# EAGLE library part 5VSX50TFF1136 (library xilinx_spartan3_virtex4_and_5)
Xilinx FPGA
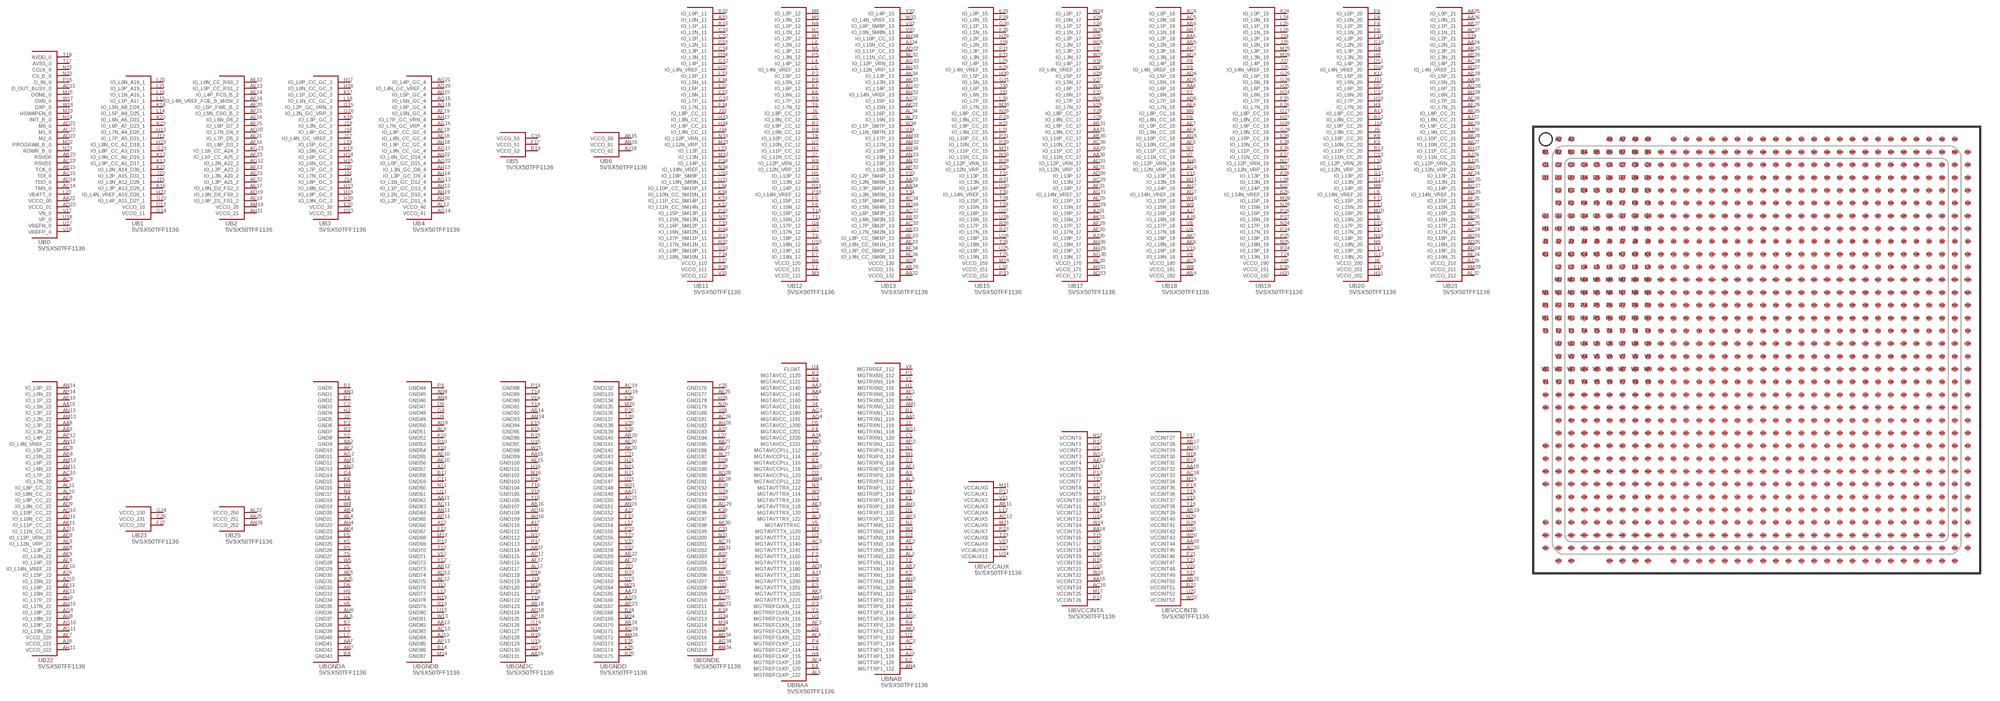
[diagram p113: symbol with the pads of FF1136; footprint FF1136]

Designator prefix U; gates B0=5VSX50TFF1136_0 B1=5VSX50TFF1136_1 B2=5VSX50TFF1136_2 B3=5VSX50TFF1136_3 B4=5VSX50TFF1136_4 B5=5VSX50TFF1136_5 B6=5VSX50TFF1136_6 B11=5VSX50TFF1136_11 B12=5VSX50TFF1136_12 B13=5VSX50TFF1136_13 B15=5VSX50TFF1136_15 B17=5VSX50TFF1136_17 B18=5VSX50TFF1136_18 B19=5VSX50TFF1136_19 B20=5VSX50TFF1136_20 B21=5VSX50TFF1136_21 B22=5VSX50TFF1136_22 B23=5VSX50TFF1136_23 B25=5VSX50TFF1136_25 BGNDA=5VSX50TFF1136_GNDA BGNDB=5VSX50TFF1136_GNDB BGNDC=5VSX50TFF1136_GNDC BGNDD=5VSX50TFF1136_GNDD BGNDE=5VSX50TFF1136_GNDE BNAA=5VSX50TFF1136_NAA BNAB=5VSX50TFF1136_NAB BVCCAUX=5VSX50TFF1136_VCCAUX BVCCINTA=5VSX50TFF1136_VCCINTA BVCCINTB=5VSX50TFF1136_VCCINTB

## 5VSX50TFF1136  [FF1136]
A2  BNAB:MGTRXN0_120
A3  BNAB:MGTRXP0_120
A11  BGNDB:GND57  pas
A12  BGNDB:GND66  pas
A13  B20:IO_L8P_CC_20
A17  BGNDC:GND110  pas
A22  BGNDD:GND152  pas
A27  BGNDE:GND183  pas
A32  BGNDE:GND203  pas
A33  B11:IO_L0N_11
AA1  BNAB:MGTRXN1_114
AA2  BGNDA:GND9  pas
AA3  BNAA:MGTAVCC_1140
AA4  BNAA:MGTAVCC_1141
AA5  B18:IO_L2P_18
AA6  B18:IO_L6P_18
AA7  BGNDA:GND41  pas
AA8  B22:IO_L3P_22
AA9  B22:IO_L3N_22
AA10  B22:IO_L1N_22
AA11  BGNDB:GND62  pas
AA12  BVCCINTA:VCCINT4  pas
AA13  BGNDB:GND82  pas
AA14  BVCCINTA:VCCINT15  pas
AA15  BGNDC:GND99  pas
AA16  BVCCINTA:VCCINT23  pas
AA17  BGNDC:GND114  pas
AA18  BVCCINTB:VCCINT32  pas
AA19  BGNDC:GND131  pas
AA20  BVCCINTB:VCCINT44  pas
AA21  BGNDD:GND149  pas
AA22  B0:VCCO_00  pas
AA23  BGNDD:GND165  pas
AA24  B21:IO_L2N_21
AA25  B21:IO_L0P_21
AA26  B21:IO_L0N_21
AA27  BGNDE:GND185  pas
AA28  B21:IO_L5N_21
AA29  B17:IO_L11P_CC_17
AA30  B17:IO_L11N_CC_17
AA31  B17:IO_L9N_CC_17
AA32  B13:VCCO_132  pas
AA33  B13:IO_L2N_SM6N_13
AA34  B13:IO_L3P_SM5P_13
AB1  BNAB:MGTRXP1_114
AB2  BNAB:MGTTXN1_114
AB3  BNAA:MGTAVCCPLL_114
AB4  BGNDA:GND20  pas
AB5  B18:IO_L2N_18
AB6  B18:IO_L1P_18
AB7  B18:IO_L1N_18
AB8  B22:IO_L5N_22
AB9  B18:VCCO_182  pas
AB10  B22:IO_L1P_22
AB11  BVCCAUX:VCCAUX3  pas
AB12  BGNDB:GND73  pas
AB13  BVCCINTA:VCCINT10  pas
AB14  BGNDC:GND92  pas
AB15  B0:TCK_0
AB16  BGNDC:GND107  pas
AB17  BVCCINTB:VCCINT28  pas
AB18  BGNDC:GND123  pas
AB19  BVCCINTB:VCCINT39  pas
AB20  BGNDD:GND140  pas
AB21  BVCCINTB:VCCINT50  pas
AB22  BGNDD:GND159  pas
AB23  B0:RSVD0
AB24  BGNDD:GND170  pas
AB25  B21:IO_L3P_21
AB26  B21:IO_L3N_21
AB27  B21:IO_L1P_21
AB28  B21:IO_L5P_21
AB29  B13:VCCO_131  pas
AB30  B17:IO_L10P_CC_17
AB31  B17:IO_L9P_CC_17
AB32  B13:IO_L6N_SM3N_13
AB33  B13:IO_L7N_SM2N_13
AB34  BGNDE:GND216  pas
AC2  BNAB:MGTTXP1_114
AC3  BNAA:MGTAVTTTX_1140
AC4  B18:IO_L0P_18
AC5  B18:IO_L0N_18
AC6  B18:VCCO_180  pas
AC7  B18:IO_L3P_18
AC8  B22:IO_L5P_22
AC9  B22:IO_L7N_22
AC10  B22:IO_L7P_22
AC11  BGNDB:GND63  pas
AC12  BVCCAUX:VCCAUX5  pas
AC13  BGNDB:GND83  pas
AC14  B0:TMS_0
AC15  B0:TDI_0
AC16  BVCCINTA:VCCINT24  pas
AC17  BGNDC:GND115  pas
AC18  BVCCINTB:VCCINT33  pas
AC19  BGNDD:GND132  pas
AC20  BVCCINTB:VCCINT45  pas
AC21  BGNDD:GND150  pas
AC22  B0:M1_0
AC23  B0:RSVD1
AC24  B21:IO_L17N_21
AC25  B21:IO_L17P_21
AC26  BGNDE:GND181  pas
AC27  B21:IO_L1N_21
AC28  B21:IO_L4P_21
AC29  B17:IO_L13N_17
AC30  B17:IO_L10N_CC_17
AC31  BGNDE:GND201  pas
AC32  B13:IO_L6P_SM3P_13
AC33  B13:IO_L7P_SM2P_13
AC34  B13:IO_L5P_SM4P_13
AD2  BNAB:MGTTXP0_118
AD3  BNAA:MGTAVTTTX_1180
AD4  B18:IO_L5P_18
AD5  B18:IO_L5N_18
AD6  B18:IO_L7P_18
AD7  B18:IO_L3N_18
AD8  BGNDB:GND45  pas
AD9  B22:IO_L9N_CC_22
AD10  B22:IO_L10P_CC_22
AD11  B22:IO_L10N_CC_22
AD12  BGNDB:GND74  pas
AD13  BVCCINTA:VCCINT11  pas
AD14  B0:TDO_0
AD15  B0:D_OUT_BUSY_0
AD16  BGNDC:GND108  pas
AD17  BVCCINTB:VCCINT29  pas
AD18  BGNDC:GND124  pas
AD19  B2:IO_L9N_D0_FS0_2
AD20  B2:IO_L7N_D4_2
AD21  B0:M0_0
AD22  B0:M2_0
AD23  B0:VCCO_01  pas
AD24  B21:IO_L19P_21
AD25  B21:IO_L18N_21
AD26  B21:IO_L18P_21
AD27  B21:IO_L4N_VREF_21
AD28  BGNDE:GND190  pas
AD29  B17:IO_L15N_17
AD30  B17:IO_L13P_17
AD31  B17:IO_L12P_VRN_17
AD32  B13:IO_L11P_CC_13
AD33  B17:VCCO_172  pas
AD34  B13:IO_L5N_SM4N_13
AE1  BNAB:MGTRXP0_118
AE2  BNAB:MGTTXN0_118
AE3  BNAA:MGTAVTTRX_118
AE4  BGNDA:GND21  pas
AE5  BGNDA:GND30  pas
AE6  B18:IO_L7N_18
AE7  B18:IO_L9P_CC_18
AE8  B22:IO_L9P_CC_22
AE9  B22:IO_L12N_VRP_22
AE10  BGNDB:GND55  pas
AE11  B22:IO_L16N_22
AE12  B2:IO_L0N_CC_RS0_2
AE13  B2:IO_L0P_CC_RS1_2
AE14  B2:IO_L4P_FCS_B_2
AE15  BGNDC:GND100  pas
AE16  B2:IO_L6N_D6_2
AE17  B2:IO_L8N_D2_FS2_2
AE18  B4:IO_L8N_CC_GC_4
AE19  B2:IO_L9P_D1_FS1_2
AE20  BGNDD:GND141  pas
AE21  B2:IO_L7P_D5_2
AE22  B2:IO_L3P_A21_2
AE23  B2:IO_L3N_A20_2
AE24  B21:IO_L19N_21
AE25  BGNDE:GND177  pas
AE26  B21:IO_L16N_21
AE27  B21:IO_L16P_21
AE28  B21:IO_L7P_21
AE29  B17:IO_L15P_17
AE30  B17:VCCO_170  pas
AE31  B17:IO_L12N_VRP_17
AE32  B13:IO_L11N_CC_13
AE33  B13:IO_L8N_CC_SM1N_13
AE34  B13:IO_L9N_CC_SM0N_13
AF1  BNAB:MGTRXN0_118
AF2  BGNDA:GND10  pas
AF3  BNAA:MGTREFCLKN_118
AF4  BNAA:MGTREFCLKP_118
AF5  B18:IO_L10N_CC_18
AF6  B18:IO_L9N_CC_18
AF7  B22:VCCO_220  pas
AF8  B22:IO_L12P_VRN_22
AF9  B22:IO_L14P_22
AF10  B22:IO_L14N_VREF_22
AF11  B22:IO_L16P_22
AF12  BGNDB:GND75  pas
AF13  B2:IO_L2P_A23_2
AF14  B2:IO_L4N_VREF_FOE_B_MOSI_2
AF15  B2:IO_L6P_D7_2
AF16  B2:IO_L8P_D3_2
AF17  BGNDC:GND116  pas
AF18  B4:IO_L8P_CC_GC_4
AF19  B4:IO_L6N_GC_4
AF20  B2:IO_L5P_FWE_B_2
AF21  B2:IO_L5N_CSO_B_2
AF22  BGNDD:GND160  pas
AF23  B2:IO_L1P_CC_A25_2
AF24  B21:IO_L13P_21
AF25  B21:IO_L15P_21
AF26  B21:IO_L15N_21
AF27  BGNDE:GND186  pas
AF28  B21:IO_L7N_21
AF29  B17:IO_L17P_17
AF30  B17:IO_L17N_17
AF31  B17:IO_L14P_17
AF32  BGNDE:GND206  pas
AF33  B13:IO_L8P_CC_SM1P_13
AF34  B13:IO_L9P_CC_SM0P_13
AG1  BNAB:MGTRXN1_118
AG2  BGNDA:GND11  pas
AG3  BNAA:MGTAVCC_1180
AG4  BNAA:MGTAVCC_1181
AG5  B18:IO_L10P_CC_18
AG6  B18:IO_L12N_VRP_18
AG7  B18:IO_L14N_VREF_18
AG8  B22:IO_L18P_22
AG9  BGNDB:GND50  pas
AG10  B22:IO_L19P_22
AG11  B22:IO_L19N_22
AG12  B2:IO_L2N_A22_2
AG13  B4:IO_L1N_GC_D12_4
AG14  B4:VCCO_41  pas
AG15  B4:IO_L5N_GC_4
AG16  B4:IO_L7N_GC_VRP_4
AG17  B4:IO_L9N_CC_GC_4
AG18  B4:IO_L6P_GC_4
AG19  BGNDD:GND133  pas
AG20  B4:IO_L4N_GC_VREF_4
AG21  B4:IO_L4P_GC_4
AG22  B4:IO_L0P_GC_D15_4
AG23  B2:IO_L1N_CC_A24_2
AG24  BGNDD:GND171  pas
AG25  B21:IO_L13N_21
AG26  B21:IO_L14N_VREF_21
AG27  B21:IO_L14P_21
AG28  B21:IO_L6P_21
AG29  BGNDE:GND195  pas
AG30  B17:IO_L19N_17
AG31  B17:IO_L14N_VREF_17
AG32  B13:IO_L14P_13
AG33  B13:IO_L12P_VRN_13
AG34  BGNDE:GND217  pas
AH1  BNAB:MGTRXP1_118
AH2  BNAB:MGTTXN1_118
AH3  BNAA:MGTAVCCPLL_118
AH4  BGNDA:GND22  pas
AH5  B18:IO_L12P_VRN_18
AH6  BGNDA:GND36  pas
AH7  B18:IO_L14P_18
AH8  B22:IO_L18N_22
AH9  B22:IO_L17P_22
AH10  B22:IO_L17N_22
AH11  B22:VCCO_222  pas
AH12  B4:IO_L1P_GC_D13_4
AH13  B4:IO_L3N_GC_D8_4
AH14  B4:IO_L3P_GC_D9_4
AH15  B4:IO_L5P_GC_4
AH16  BGNDC:GND109  pas
AH17  B4:IO_L7P_GC_VRN_4
AH18  B4:IO_L9P_CC_GC_4
AH19  B4:IO_L2N_GC_D10_4
AH20  B4:IO_L2P_GC_D11_4
AH21  B2:VCCO_21  pas
AH22  B4:IO_L0N_GC_D14_4
AH25  B21:IO_L12N_VRP_21
AH26  BGNDE:GND182  pas
AH27  B21:IO_L11P_CC_21
AH28  B21:IO_L6N_21
AH29  B17:IO_L19P_17
AH30  B17:IO_L18N_17
AH31  B17:VCCO_171  pas
AH32  B13:IO_L14N_VREF_13
AH33  B13:IO_L12N_VRP_13
AH34  B13:IO_L10P_CC_13
AJ2  BNAB:MGTTXP1_118
AJ3  BNAA:MGTAVTTTX_1181
AJ4  BNAA:MGTAVCC_1220
AJ5  BGNDA:GND31  pas
AJ6  B18:IO_L16N_18
AJ7  B18:IO_L16P_18
AJ8  B22:VCCO_221  pas
AJ9  B22:IO_L15P_22
AJ10  B22:IO_L15N_22
AJ11  B22:IO_L11N_CC_22
AJ13  BGNDB:GND84  pas
AJ18  B6:VCCO_62  pas
AJ23  BGNDD:GND166  pas
AJ25  B21:IO_L12P_VRN_21
AJ26  B21:IO_L11N_CC_21
AJ27  B21:IO_L8N_CC_21
AJ28  B21:VCCO_210  pas
AJ29  B21:IO_L9N_CC_21
AJ30  B17:IO_L18P_17
AJ31  B17:IO_L16P_17
AJ32  B13:IO_L15P_13
AJ33  BGNDE:GND210  pas
AJ34  B13:IO_L10N_CC_13
AK2  BNAB:MGTTXP0_122
AK3  BNAA:MGTAVTTTX_1220
AK4  BGNDA:GND23  pas
AK5  BNAA:MGTAVCC_1221
AK6  B18:IO_L18N_18
AK7  B18:IO_L18P_18
AK8  B22:IO_L13P_22
AK9  B22:IO_L13N_22
AK10  BGNDB:GND56  pas
AK11  B22:IO_L11P_CC_22
AK15  B6:VCCO_60  pas
AK20  BGNDD:GND142  pas
AK25  B25:VCCO_251  pas
AK26  B21:IO_L8P_CC_21
AK27  B21:IO_L10N_CC_21
AK28  B21:IO_L10P_CC_21
AK29  B21:IO_L9P_CC_21
AK30  BGNDE:GND198  pas
AK31  B17:IO_L16N_17
AK32  B13:IO_L15N_13
AK33  B13:IO_L13N_13
AK34  B13:IO_L13P_13
AL1  BNAB:MGTRXP0_122
AL2  BNAB:MGTTXN0_122
AL3  BNAA:MGTAVTTRX_122
AL4  BNAA:MGTREFCLKN_122
AL5  BNAA:MGTREFCLKP_122
AL6  BGNDA:GND37  pas
AL9  BGNDB:GND51  pas
AL10  B22:IO_L8N_CC_22
AL11  B22:IO_L8P_CC_22
AL12  B4:VCCO_40  pas
AL17  BGNDC:GND117  pas
AL22  B25:VCCO_250  pas
AL27  BGNDE:GND187  pas
AL32  B21:VCCO_212  pas
AL33  B13:IO_L16N_13
AL34  B13:IO_L16P_13
AM1  BNAB:MGTRXN0_122
AM2  BGNDA:GND12  pas
AM3  BNAA:MGTAVTTTX_1221
AM4  BNAA:MGTAVCCPLL_122
AM11  B22:IO_L6N_22
AM12  B22:IO_L6P_22
AM13  B22:IO_L2N_22
AM14  BGNDC:GND93  pas
AM19  B2:VCCO_20  pas
AM24  BGNDD:GND172  pas
AM29  B21:VCCO_211  pas
AM32  B13:IO_L17N_13
AM33  B13:IO_L17P_13
AM34  BGNDE:GND218  pas
AN1  BGNDA:GND1  pas
AN2  BGNDA:GND13  pas
AN3  BNAB:MGTTXN1_122
AN4  BNAB:MGTTXP1_122
AN7  BGNDA:GND42  pas
AN8  BGNDB:GND46  pas
AN11  BGNDB:GND64  pas
AN12  B22:IO_L4N_VREF_22
AN13  B22:IO_L2P_22
AN14  B22:IO_L0P_22
AN16  B6:VCCO_61  pas
AN21  BGNDD:GND151  pas
AN26  B25:VCCO_252  pas
AN31  BGNDE:GND202  pas
AN32  B13:IO_L19P_13
AN33  B13:IO_L18N_13
AN34  B13:IO_L18P_13
AP2  BNAB:MGTRXN1_122
AP3  BNAB:MGTRXP1_122
AP11  BGNDB:GND65  pas
AP12  B22:IO_L4P_22
AP13  BGNDB:GND85  pas
AP14  B22:IO_L0N_22
AP18  BGNDC:GND125  pas
AP23  BGNDD:GND167  pas
AP28  BGNDE:GND191  pas
AP32  B13:IO_L19N_13
AP33  BGNDE:GND211  pas
B1  BGNDA:GND0  pas
B2  BGNDA:GND2  pas
B3  BNAB:MGTTXN0_120
B4  BNAB:MGTTXP0_120
B7  BGNDA:GND38  pas
B8  BGNDA:GND43  pas
B11  BGNDB:GND58  pas
B12  B20:IO_L8N_CC_20
B13  B20:IO_L11P_CC_20
B14  BGNDB:GND86  pas
B19  B5:VCCO_52  pas
B24  BGNDD:GND168  pas
B29  BGNDE:GND192  pas
B32  B11:IO_L0P_11
B33  B11:IO_L1P_11
B34  BGNDE:GND212  pas
C1  BNAB:MGTRXN1_120
C2  BGNDA:GND3  pas
C3  BNAA:MGTAVTTRX_120
C4  BNAA:MGTAVTTTX_1200
C11  BGNDB:GND59  pas
C12  B20:IO_L6N_20
C13  B20:IO_L11N_CC_20
C16  B5:VCCO_50  pas
C21  BGNDD:GND143  pas
C26  B23:VCCO_231  pas
C31  BGNDE:GND199  pas
C32  B11:IO_L2P_11
C33  B11:IO_L1N_11
C34  B11:IO_L3P_11
D1  BNAB:MGTRXP1_120
D2  BNAB:MGTTXN1_120
D3  BNAA:MGTAVCCPLL_120
D4  BNAA:MGTREFCLKN_120
D5  BNAA:MGTAVCC_1200
D6  BGNDA:GND32  pas
D9  BGNDB:GND47  pas
D10  B20:IO_L4N_VREF_20
D11  B20:IO_L4P_20
D12  B20:IO_L6P_20
D13  B1:VCCO_10  pas
D18  BGNDC:GND118  pas
D23  B3:VCCO_31  pas
D28  BGNDE:GND188  pas
D32  B11:IO_L2N_11
D33  BGNDE:GND207  pas
D34  B11:IO_L3N_11
E2  BNAB:MGTTXP1_120
E3  BNAA:MGTAVTTTX_1201
E4  BNAA:MGTREFCLKP_120
E5  BGNDA:GND24  pas
E6  B12:IO_L19P_12
E7  B12:IO_L19N_12
E8  B20:IO_L0N_20
E9  B20:IO_L0P_20
E10  B20:VCCO_201  pas
E11  B20:IO_L15N_20
E12  B20:IO_L17P_20
E13  B20:IO_L17N_20
E15  BGNDC:GND94  pas
E20  B3:VCCO_30  pas
E25  BGNDD:GND173  pas
E26  B19:IO_L11P_CC_19
E27  B19:IO_L11N_CC_19
E28  B19:IO_L10P_CC_19
E29  B15:IO_L0P_15
E30  B19:VCCO_191  pas
E31  B15:IO_L3N_15
E32  B11:IO_L6P_11
E33  B11:IO_L6N_11
E34  B11:IO_L5N_11
F2  BNAB:MGTTXP0_116
F3  BNAA:MGTAVTTTX_1160
F4  BNAA:MGTAVCC_1201
F5  B12:IO_L15P_12
F6  B12:IO_L15N_12
F7  BGNDA:GND39  pas
F8  B20:IO_L1N_20
F9  B20:IO_L1P_20
F10  B20:IO_L2P_20
F11  B20:IO_L15P_20
F12  BGNDB:GND67  pas
F13  B20:IO_L19P_20
F17  B5:VCCO_51  pas
F22  BGNDD:GND153  pas
F25  B19:IO_L7P_19
F26  B19:IO_L7N_19
F27  B23:VCCO_232  pas
F28  B19:IO_L10N_CC_19
F29  B15:IO_L0N_15
F30  B15:IO_L1N_15
F31  B15:IO_L3P_15
F32  BGNDE:GND204  pas
F33  B11:IO_L5P_11
F34  B11:IO_L7N_11
G1  BNAB:MGTRXP0_116
G2  BNAB:MGTTXN0_116
G3  BNAA:MGTAVTTRX_116
G4  BGNDA:GND14  pas
G5  B12:IO_L13N_12
G6  B12:IO_L17P_12
G7  B12:IO_L17N_12
G8  B20:IO_L3P_20
G9  BGNDB:GND48  pas
G10  B20:IO_L2N_20
G11  B20:IO_L13P_20
G12  B20:IO_L13N_20
G13  B20:IO_L19N_20
G14  B1:VCCO_11  pas
G15  B3:IO_L2P_GC_VRN_3
G16  B3:IO_L2N_GC_VRP_3
G19  BGNDC:GND126  pas
G22  B1:IO_L4P_A11_D27_1
G23  B1:IO_L8P_CC_A3_D19_1
G24  B23:VCCO_230  pas
G25  B19:IO_L5P_19
G26  B19:IO_L5N_19
G27  B19:IO_L8P_CC_19
G28  B19:IO_L9N_CC_19
G29  BGNDE:GND193  pas
G30  B15:IO_L1P_15
G31  B15:IO_L5N_15
G32  B11:IO_L4P_11
G33  B11:IO_L7P_11
G34  BGNDE:GND213  pas
H1  BNAB:MGTRXN0_116
H2  BGNDA:GND4  pas
H3  BNAA:MGTREFCLKN_116
H4  BNAA:MGTREFCLKP_116
H5  B12:IO_L13P_12
H6  BGNDA:GND33  pas
H7  B12:IO_L11P_CC_12
H8  B20:IO_L3N_20
H9  B20:IO_L7N_20
H10  B20:IO_L7P_20
H11  B20:VCCO_202  pas
H12  B1:IO_L7N_A4_D20_1
H13  B3:IO_L8N_GC_3
H14  B3:IO_L6P_GC_3
H15  B3:IO_L6N_GC_3
H16  BGNDC:GND101  pas
H17  B3:IO_L0P_CC_GC_3
H18  B3:IO_L0N_CC_GC_3
H19  B3:IO_L9P_GC_3
H20  B3:IO_L9N_GC_3
H21  BGNDD:GND144  pas
H22  B1:IO_L4N_VREF_A10_D26_1
H23  B1:IO_L8N_CC_A2_D18_1
H24  B19:IO_L6N_19
H25  B19:IO_L6P_19
H26  BGNDE:GND178  pas
H27  B19:IO_L8N_CC_19
H28  B19:IO_L9P_CC_19
H29  B15:IO_L2P_15
H30  B15:IO_L5P_15
H31  B19:VCCO_192  pas
H32  B11:IO_L4N_VREF_11
H33  B11:IO_L8N_CC_11
H34  B11:IO_L9P_CC_11
J1  BNAB:MGTRXN1_116
J2  BGNDA:GND5  pas
J3  BNAA:MGTAVCC_1160
J4  BNAA:MGTAVCC_1161
J5  B12:IO_L8N_CC_12
J6  B12:IO_L8P_CC_12
J7  B12:IO_L11N_CC_12
J8  B20:VCCO_200  pas
J9  B20:IO_L9N_CC_20
J10  B20:IO_L9P_CC_20
J11  B20:IO_L5N_20
J12  B1:IO_L7P_A5_D21_1
J13  BGNDB:GND76  pas
J14  B3:IO_L8P_GC_3
J15  B1:IO_L3N_A12_D28_1
J16  B3:IO_L4P_GC_3
J17  B3:IO_L4N_GC_VREF_3
J18  BGNDC:GND119  pas
J19  B3:IO_L3N_GC_3
J20  B3:IO_L7P_GC_3
J21  B3:IO_L7N_GC_3
J22  B1:IO_L2P_A15_D31_1
J23  BGNDD:GND161  pas
J24  B19:IO_L2P_19
J25  B19:IO_L2N_19
J26  B19:IO_L4N_VREF_19
J27  B19:IO_L4P_19
J28  B19:VCCO_190  pas
J29  B15:IO_L2N_15
J30  B15:IO_L6P_15
J31  B15:IO_L6N_15
J32  B11:IO_L8P_CC_11
J33  BGNDE:GND208  pas
J34  B11:IO_L9N_CC_11
K1  BNAB:MGTRXP1_116
K2  BNAB:MGTTXN1_116
K3  BNAA:MGTAVCCPLL_116
K4  BGNDA:GND15  pas
K5  BGNDA:GND25  pas
K6  B12:IO_L6N_12
K7  B12:IO_L6P_12
K8  B20:IO_L10P_CC_20
K9  B20:IO_L10N_CC_20
K10  BGNDB:GND52  pas
K11  B20:IO_L5P_20
K12  B1:IO_L9N_CC_A0_D16_1
K13  B1:IO_L9P_CC_A1_D17_1
K14  B1:IO_L5N_A8_D24_1
K15  BGNDC:GND95  pas
K16  B1:IO_L3P_A13_D29_1
K17  B3:IO_L1P_CC_GC_3
K18  B3:IO_L3P_GC_3
K19  B3:IO_L5N_GC_3
K20  BGNDD:GND134  pas
K21  B1:IO_L2N_A14_D30_1
K22  B1:IO_L6N_A6_D22_1
K23  B1:IO_L6P_A7_D23_1
K24  B19:IO_L0P_19
K25  BGNDD:GND174  pas
K26  B19:IO_L14N_VREF_19
K27  B19:IO_L14P_19
K28  B19:IO_L13P_19
K29  B15:IO_L4N_VREF_15
K30  BGNDE:GND196  pas
K31  B15:IO_L9P_CC_15
K32  B11:IO_L11N_CC_SM14N_11
K33  B11:IO_L11P_CC_SM14P_11
K34  B11:IO_L10N_CC_SM15N_11
L2  BNAB:MGTTXP1_116
L3  BNAA:MGTAVTTTX_1161
L4  B12:IO_L4P_12
L5  B12:IO_L4N_VREF_12
L6  B12:IO_L2N_12
L7  BGNDA:GND40  pas
L8  B20:IO_L14N_VREF_20
L9  B20:IO_L16N_20
L10  B20:IO_L12P_VRN_20
L11  B20:IO_L12N_VRP_20
L12  BVCCAUX:VCCAUX4  pas
L13  BGNDB:GND77  pas
L14  B1:IO_L5P_A9_D25_1
L15  B1:IO_L1P_A17_1
L16  B1:IO_L1N_A16_1
L17  BGNDC:GND111  pas
L18  B3:IO_L1N_CC_GC_3
L19  B3:IO_L5P_GC_3
L20  B1:IO_L0N_A18_1
L21  B1:IO_L0P_A19_1
L22  BGNDD:GND154  pas
L23  B0:VBATT_0
L24  B19:IO_L0N_19
L25  B19:IO_L1P_19
L26  B19:IO_L1N_19
L27  BGNDE:GND184  pas
L28  B19:IO_L13N_19
L29  B15:IO_L4P_15
L30  B15:IO_L7P_15
L31  B15:IO_L9N_CC_15
L32  B15:VCCO_151  pas
L33  B11:IO_L13P_11
L34  B11:IO_L10P_CC_SM15P_11
M2  BNAB:MGTTXP0_112
M3  BNAA:MGTAVTTTX_1120
M4  BGNDA:GND16  pas
M5  B12:IO_L0N_12
M6  B12:IO_L0P_12
M7  B12:IO_L2P_12
M8  B20:IO_L14P_20
M9  B12:VCCO_122  pas
M10  B20:IO_L16P_20
M11  BVCCAUX:VCCAUX0  pas
M12  BGNDB:GND68  pas
M13  BVCCINTA:VCCINT5  pas
M14  BGNDB:GND87  pas
M15  B0:DONE_0
M16  BGNDC:GND102  pas
M17  BVCCINTA:VCCINT25  pas
M18  BGNDC:GND120  pas
M19  BVCCINTB:VCCINT34  pas
M20  BGNDD:GND135  pas
M21  BVCCAUX:VCCAUX6  pas
M22  B0:PROGRAM_B_0
M23  B0:HSWAPEN_0
M24  BGNDD:GND169  pas
M25  B19:IO_L3P_19
M26  B19:IO_L3N_19
M27  B19:IO_L12N_VRP_19
M28  B19:IO_L15P_19
M29  B15:VCCO_150  pas
M30  B15:IO_L7N_15
M31  B15:IO_L11P_CC_15
M32  B11:IO_L13N_11
M33  B11:IO_L12N_VRP_11
M34  BGNDE:GND214  pas
N1  BNAB:MGTRXP0_112
N2  BNAB:MGTTXN0_112
N3  BNAA:MGTAVTTRX_112
N4  BGNDA:GND17  pas
N5  B12:IO_L3P_12
N6  B12:VCCO_120  pas
N7  B12:IO_L1N_12
N8  B12:IO_L1P_12
N9  B20:IO_L18N_20
N10  B20:IO_L18P_20
N11  BGNDB:GND60  pas
N12  BVCCINTA:VCCINT0  pas
N13  BGNDB:GND78  pas
N14  B0:INIT_B_0
N15  B0:CCLK_0
N16  BVCCINTA:VCCINT19  pas
N17  BGNDC:GND112  pas
N18  BVCCINTB:VCCINT30  pas
N19  BGNDC:GND127  pas
N20  BVCCINTB:VCCINT40  pas
N21  BGNDD:GND145  pas
N22  B0:CS_B_0
N23  B0:RDWR_B_0
N24  B19:IO_L17P_19
N25  B19:IO_L18N_19
N26  BGNDE:GND179  pas
N27  B19:IO_L12P_VRN_19
N28  B19:IO_L15N_19
N29  B15:IO_L8P_CC_15
N30  B15:IO_L11N_CC_15
N31  BGNDE:GND200  pas
N32  B11:IO_L15N_SM13N_11
N33  B11:IO_L12P_VRN_11
N34  B11:IO_L14N_VREF_11
P1  BNAB:MGTRXN0_112
P2  BGNDA:GND6  pas
P3  BNAA:MGTREFCLKN_112
P4  BNAA:MGTREFCLKP_112
P5  B12:IO_L3N_12
P6  B12:IO_L5N_12
P7  B12:IO_L5P_12
P8  BGNDB:GND44  pas
P9  B12:IO_L12N_VRP_12
P10  B12:IO_L14N_VREF_12
P11  BVCCAUX:VCCAUX1  pas
P12  BGNDB:GND69  pas
P13  BVCCINTA:VCCINT6  pas
P14  BGNDC:GND88  pas
P15  B0:D_IN_0
P16  BGNDC:GND103  pas
P17  BVCCINTA:VCCINT26  pas
P18  BGNDC:GND121  pas
P19  BVCCINTB:VCCINT35  pas
P20  BGNDD:GND136  pas
P21  BVCCINTB:VCCINT46  pas
P22  BGNDD:GND155  pas
P23  BVCCAUX:VCCAUX7  pas
P24  B19:IO_L17N_19
P25  B19:IO_L18P_19
P26  B19:IO_L16P_19
P27  B19:IO_L16N_19
P28  BGNDE:GND189  pas
P29  B15:IO_L8N_CC_15
P30  B15:IO_L10N_CC_15
P31  B15:IO_L10P_CC_15
P32  B11:IO_L15P_SM13P_11
P33  B15:VCCO_152  pas
P34  B11:IO_L14P_11
R1  BNAB:MGTRXN1_112
R2  BGNDA:GND7  pas
R3  BNAA:MGTAVCC_1120
R4  BNAA:MGTAVCC_1121
R5  BGNDA:GND26  pas
R6  B12:IO_L7P_12
R7  B12:IO_L9P_CC_12
R8  B12:IO_L9N_CC_12
R9  B12:IO_L12P_VRN_12
R10  BGNDB:GND53  pas
R11  B12:IO_L14P_12
R12  BVCCINTA:VCCINT1  pas
R13  BGNDB:GND79  pas
R14  BVCCINTA:VCCINT12  pas
R15  BGNDC:GND96  pas
R16  BVCCINTA:VCCINT20  pas
R17  BGNDC:GND113  pas
R18  BVCCINTB:VCCINT31  pas
R19  BGNDC:GND128  pas
R20  BVCCINTB:VCCINT41  pas
R21  BGNDD:GND146  pas
R22  BVCCINTB:VCCINT51  pas
R23  BGNDD:GND162  pas
R24  B19:IO_L19P_19
R25  BGNDD:GND175  pas
R26  B15:IO_L17P_15
R27  B15:IO_L17N_15
R28  B15:IO_L12P_VRN_15
R29  B15:IO_L12N_VRP_15
R30  B11:VCCO_111  pas
R31  B15:IO_L13N_15
R32  B11:IO_L17N_SM11N_11
R33  B11:IO_L17P_SM11P_11
R34  B11:IO_L16N_SM12N_11
T1  BNAB:MGTRXP1_112
T2  BNAB:MGTTXN1_112
T3  BNAA:MGTAVCCPLL_112
T4  BGNDA:GND18  pas
T5  BGNDA:GND27  pas
T6  B12:IO_L7N_12
T7  B12:VCCO_121  pas
T8  B12:IO_L10P_CC_12
T9  B12:IO_L18P_12
T10  B12:IO_L16P_12
T11  B12:IO_L16N_12
T12  BGNDB:GND70  pas
T13  BVCCINTA:VCCINT7  pas
T14  BGNDC:GND89  pas
T15  BVCCINTA:VCCINT16  pas
T16  BGNDC:GND104  pas
T17  B0:AVSS_0
T18  B0:AVDD_0
T19  BVCCINTB:VCCINT36  pas
T20  BGNDD:GND137  pas
T21  BVCCINTB:VCCINT47  pas
T22  BGNDD:GND156  pas
T23  BVCCAUX:VCCAUX8  pas
T24  B19:IO_L19N_19
T25  B15:IO_L19N_15
T26  B15:IO_L18N_15
T27  B11:VCCO_110  pas
T28  B15:IO_L15P_15
T29  B15:IO_L15N_15
T30  B15:IO_L14N_VREF_15
T31  B15:IO_L13P_15
T32  BGNDE:GND205  pas
T33  B11:IO_L16P_SM12P_11
T34  B11:IO_L18N_SM10N_11
U2  BNAB:MGTTXP1_112
U3  BNAA:MGTAVTTTX_1121
U4  BNAA:FLOAT
U6  BGNDA:GND34  pas
U7  B12:IO_L10N_CC_12
U8  B18:IO_L17N_18
U9  BGNDB:GND49  pas
U10  B12:IO_L18N_12
U11  BGNDB:GND61  pas
U12  BVCCINTA:VCCINT2  pas
U13  BGNDB:GND80  pas
U14  BVCCINTA:VCCINT13  pas
U15  BGNDC:GND97  pas
U16  BVCCINTA:VCCINT21  pas
U17  B0:VREFN_0
U18  B0:VP_0
U19  BGNDC:GND129  pas
U20  BVCCINTB:VCCINT42  pas
U21  BGNDD:GND147  pas
U22  BVCCINTB:VCCINT52  pas
U23  BGNDD:GND163  pas
U24  BVCCAUX:VCCAUX11  pas
U25  B15:IO_L19P_15
U26  B15:IO_L18P_15
U27  B15:IO_L16P_15
U28  B15:IO_L16N_15
U29  BGNDE:GND194  pas
U30  B15:IO_L14P_15
U31  B11:IO_L19N_SM9N_11
U32  B11:IO_L19P_SM9P_11
U33  B11:IO_L18P_SM10P_11
U34  BGNDE:GND215  pas
V2  BNAB:MGTTXP0_114
V3  BNAA:MGTAVTTTX_1141
V4  BNAB:MGTRREF_112
V5  BNAA:MGTAVTTRXC
V6  BGNDA:GND35  pas
V7  B18:IO_L11N_CC_18
V8  B18:IO_L17P_18
V9  B18:IO_L19N_18
V10  B18:IO_L19P_18
V11  BVCCAUX:VCCAUX2  pas
V12  BGNDB:GND71  pas
V13  BVCCINTA:VCCINT8  pas
V14  BGNDC:GND90  pas
V15  BVCCINTA:VCCINT17  pas
V16  BGNDC:GND105  pas
V17  B0:VN_0
V18  B0:VREFP_0
V19  BVCCINTB:VCCINT37  pas
V20  BGNDD:GND138  pas
V21  BVCCINTB:VCCINT48  pas
V22  BGNDD:GND157  pas
V23  BVCCAUX:VCCAUX9  pas
V24  B17:IO_L0N_17
V25  B17:IO_L2P_17
V26  BGNDE:GND180  pas
V27  B17:IO_L5N_17
V28  B17:IO_L5P_17
V29  B17:IO_L7N_17
V30  B17:IO_L4P_17
V31  B11:VCCO_112  pas
V32  B13:IO_L0P_SM8P_13
V33  B13:IO_L0N_SM8N_13
V34  B13:IO_L1N_SM7N_13
W1  BNAB:MGTRXP0_114
W2  BNAB:MGTTXN0_114
W3  BNAA:MGTAVTTRX_114
W4  BGNDA:GND19  pas
W5  BGNDA:GND28  pas
W6  B18:IO_L8P_CC_18
W7  B18:IO_L11P_CC_18
W8  B18:VCCO_181  pas
W9  B18:IO_L15N_18
W10  B18:IO_L15P_18
W11  B18:IO_L13N_18
W12  BVCCINTA:VCCINT3  pas
W13  BGNDB:GND81  pas
W14  BVCCINTA:VCCINT14  pas
W15  BGNDC:GND98  pas
W16  BVCCINTA:VCCINT22  pas
W17  B0:DXN_0
W18  B0:DXP_0
W19  BGNDC:GND130  pas
W20  BVCCINTB:VCCINT43  pas
W21  BGNDD:GND148  pas
W22  BVCCINTB:VCCINT53  pas
W23  BGNDD:GND164  pas
W24  B17:IO_L0P_17
W25  B17:IO_L2N_17
W26  B17:IO_L1N_17
W27  B17:IO_L3N_17
W28  B13:VCCO_130  pas
W29  B17:IO_L7P_17
W30  B17:IO_L4N_VREF_17
W31  B17:IO_L6P_17
W32  B13:IO_L4N_VREF_13
W33  BGNDE:GND209  pas
W34  B13:IO_L1P_SM7P_13
Y1  BNAB:MGTRXN0_114
Y2  BGNDA:GND8  pas
Y3  BNAA:MGTREFCLKN_114
Y4  BNAA:MGTREFCLKP_114
Y5  BGNDA:GND29  pas
Y6  B18:IO_L8N_CC_18
Y7  B18:IO_L6N_18
Y8  B18:IO_L4P_18
Y9  B18:IO_L4N_VREF_18
Y10  BGNDB:GND54  pas
Y11  B18:IO_L13P_18
Y12  BGNDB:GND72  pas
Y13  BVCCINTA:VCCINT9  pas
Y14  BGNDC:GND91  pas
Y15  BVCCINTA:VCCINT18  pas
Y16  BGNDC:GND106  pas
Y17  BVCCINTB:VCCINT27  pas
Y18  BGNDC:GND122  pas
Y19  BVCCINTB:VCCINT38  pas
Y20  BGNDD:GND139  pas
Y21  BVCCINTB:VCCINT49  pas
Y22  BGNDD:GND158  pas
Y23  BVCCAUX:VCCAUX10  pas
Y24  B21:IO_L2P_21
Y25  BGNDE:GND176  pas
Y26  B17:IO_L1P_17
Y27  B17:IO_L3P_17
Y28  B17:IO_L8P_CC_17
Y29  B17:IO_L8N_CC_17
Y30  BGNDE:GND197  pas
Y31  B17:IO_L6N_17
Y32  B13:IO_L4P_13
Y33  B13:IO_L2P_SM6P_13
Y34  B13:IO_L3N_SM5N_13

## Footprint FF1136 (pad centres in mm)
smd 0.45 x 0.45: A2 -15.5,16.5; A3 -14.5,16.5; A6 -11.5,16.5; A7 -10.5,16.5; A8 -9.5,16.5; A9 -8.5,16.5; A11 -6.5,16.5; A12 -5.5,16.5; A13 -4.5,16.5; A14 -3.5,16.5; A15 -2.5,16.5; A16 -1.5,16.5; A17 -0.5,16.5; A18 0.5,16.5; A19 1.5,16.5; A20 2.5,16.5; A21 3.5,16.5; A22 4.5,16.5; A23 5.5,16.5; A24 6.5,16.5; A25 7.5,16.5; A26 8.5,16.5; A27 9.5,16.5; A28 10.5,16.5; A29 11.5,16.5; A30 12.5,16.5; A31 13.5,16.5; A32 14.5,16.5; A33 15.5,16.5; AA1 -16.5,-3.5; AA2 -15.5,-3.5; AA3 -14.5,-3.5; AA4 -13.5,-3.5; AA5 -12.5,-3.5; AA6 -11.5,-3.5; AA7 -10.5,-3.5; AA8 -9.5,-3.5; AA9 -8.5,-3.5; AA10 -7.5,-3.5; AA11 -6.5,-3.5; AA12 -5.5,-3.5; AA13 -4.5,-3.5; AA14 -3.5,-3.5; AA15 -2.5,-3.5; AA16 -1.5,-3.5; AA17 -0.5,-3.5; AA18 0.5,-3.5; AA19 1.5,-3.5; AA20 2.5,-3.5; AA21 3.5,-3.5; AA22 4.5,-3.5; AA23 5.5,-3.5; AA24 6.5,-3.5; AA25 7.5,-3.5; AA26 8.5,-3.5; AA27 9.5,-3.5; AA28 10.5,-3.5; AA29 11.5,-3.5; AA30 12.5,-3.5; AA31 13.5,-3.5; AA32 14.5,-3.5; AA33 15.5,-3.5; AA34 16.5,-3.5; AB1 -16.5,-4.5; AB2 -15.5,-4.5; AB3 -14.5,-4.5; AB4 -13.5,-4.5; AB5 -12.5,-4.5; AB6 -11.5,-4.5; AB7 -10.5,-4.5; AB8 -9.5,-4.5; AB9 -8.5,-4.5; AB10 -7.5,-4.5; AB11 -6.5,-4.5; AB12 -5.5,-4.5; AB13 -4.5,-4.5; AB14 -3.5,-4.5; AB15 -2.5,-4.5; AB16 -1.5,-4.5; AB17 -0.5,-4.5; AB18 0.5,-4.5; AB19 1.5,-4.5; AB20 2.5,-4.5; AB21 3.5,-4.5; AB22 4.5,-4.5; AB23 5.5,-4.5; AB24 6.5,-4.5; AB25 7.5,-4.5; AB26 8.5,-4.5; AB27 9.5,-4.5; AB28 10.5,-4.5; AB29 11.5,-4.5; AB30 12.5,-4.5; AB31 13.5,-4.5; AB32 14.5,-4.5; AB33 15.5,-4.5; AB34 16.5,-4.5; AC2 -15.5,-5.5; AC3 -14.5,-5.5; AC4 -13.5,-5.5; AC5 -12.5,-5.5; AC6 -11.5,-5.5; AC7 -10.5,-5.5; AC8 -9.5,-5.5; AC9 -8.5,-5.5; AC10 -7.5,-5.5; AC11 -6.5,-5.5; AC12 -5.5,-5.5; AC13 -4.5,-5.5; AC14 -3.5,-5.5; AC15 -2.5,-5.5; AC16 -1.5,-5.5; AC17 -0.5,-5.5; AC18 0.5,-5.5; AC19 1.5,-5.5; AC20 2.5,-5.5; AC21 3.5,-5.5; AC22 4.5,-5.5; AC23 5.5,-5.5; AC24 6.5,-5.5; AC25 7.5,-5.5; AC26 8.5,-5.5; AC27 9.5,-5.5; AC28 10.5,-5.5; AC29 11.5,-5.5; AC30 12.5,-5.5; AC31 13.5,-5.5; AC32 14.5,-5.5; AC33 15.5,-5.5; AC34 16.5,-5.5; AD2 -15.5,-6.5; AD3 -14.5,-6.5; AD4 -13.5,-6.5; AD5 -12.5,-6.5; AD6 -11.5,-6.5; AD7 -10.5,-6.5; AD8 -9.5,-6.5; AD9 -8.5,-6.5; AD10 -7.5,-6.5; AD11 -6.5,-6.5; AD12 -5.5,-6.5; AD13 -4.5,-6.5; AD14 -3.5,-6.5; AD15 -2.5,-6.5; AD16 -1.5,-6.5; AD17 -0.5,-6.5; AD18 0.5,-6.5; AD19 1.5,-6.5; AD20 2.5,-6.5; AD21 3.5,-6.5; AD22 4.5,-6.5; AD23 5.5,-6.5; AD24 6.5,-6.5; AD25 7.5,-6.5; AD26 8.5,-6.5; AD27 9.5,-6.5; AD28 10.5,-6.5; AD29 11.5,-6.5; AD30 12.5,-6.5; AD31 13.5,-6.5; AD32 14.5,-6.5; AD33 15.5,-6.5; AD34 16.5,-6.5; AE1 -16.5,-7.5; AE2 -15.5,-7.5; AE3 -14.5,-7.5; AE4 -13.5,-7.5; AE5 -12.5,-7.5; AE6 -11.5,-7.5; AE7 -10.5,-7.5; AE8 -9.5,-7.5; AE9 -8.5,-7.5; AE10 -7.5,-7.5; AE11 -6.5,-7.5; AE12 -5.5,-7.5; AE13 -4.5,-7.5; AE14 -3.5,-7.5; AE15 -2.5,-7.5; AE16 -1.5,-7.5; AE17 -0.5,-7.5; AE18 0.5,-7.5; AE19 1.5,-7.5; AE20 2.5,-7.5; AE21 3.5,-7.5; AE22 4.5,-7.5; AE23 5.5,-7.5; AE24 6.5,-7.5; AE25 7.5,-7.5; AE26 8.5,-7.5; AE27 9.5,-7.5; AE28 10.5,-7.5; AE29 11.5,-7.5; AE30 12.5,-7.5; AE31 13.5,-7.5; AE32 14.5,-7.5; AE33 15.5,-7.5; AE34 16.5,-7.5; AF1 -16.5,-8.5; AF2 -15.5,-8.5; AF3 -14.5,-8.5; AF4 -13.5,-8.5; AF5 -12.5,-8.5; AF6 -11.5,-8.5; AF7 -10.5,-8.5; AF8 -9.5,-8.5; AF9 -8.5,-8.5; AF10 -7.5,-8.5; AF11 -6.5,-8.5; AF12 -5.5,-8.5; AF13 -4.5,-8.5; AF14 -3.5,-8.5; AF15 -2.5,-8.5; AF16 -1.5,-8.5; AF17 -0.5,-8.5; AF18 0.5,-8.5; AF19 1.5,-8.5; AF20 2.5,-8.5; AF21 3.5,-8.5; AF22 4.5,-8.5; AF23 5.5,-8.5; AF24 6.5,-8.5; AF25 7.5,-8.5; AF26 8.5,-8.5; AF27 9.5,-8.5; AF28 10.5,-8.5; AF29 11.5,-8.5; AF30 12.5,-8.5; AF31 13.5,-8.5; AF32 14.5,-8.5; AF33 15.5,-8.5; AF34 16.5,-8.5; AG1 -16.5,-9.5; AG2 -15.5,-9.5; AG3 -14.5,-9.5; AG4 -13.5,-9.5; AG5 -12.5,-9.5; AG6 -11.5,-9.5; AG7 -10.5,-9.5; AG8 -9.5,-9.5; AG9 -8.5,-9.5; AG10 -7.5,-9.5; AG11 -6.5,-9.5; AG12 -5.5,-9.5; AG13 -4.5,-9.5; AG14 -3.5,-9.5; AG15 -2.5,-9.5; AG16 -1.5,-9.5; AG17 -0.5,-9.5; AG18 0.5,-9.5; AG19 1.5,-9.5; AG20 2.5,-9.5; AG21 3.5,-9.5; AG22 4.5,-9.5; AG23 5.5,-9.5; AG24 6.5,-9.5; AG25 7.5,-9.5; AG26 8.5,-9.5; AG27 9.5,-9.5; AG28 10.5,-9.5; AG29 11.5,-9.5; AG30 12.5,-9.5; AG31 13.5,-9.5; AG32 14.5,-9.5; AG33 15.5,-9.5; AG34 16.5,-9.5; AH1 -16.5,-10.5; AH2 -15.5,-10.5; AH3 -14.5,-10.5; AH4 -13.5,-10.5; AH5 -12.5,-10.5; AH6 -11.5,-10.5; AH7 -10.5,-10.5; AH8 -9.5,-10.5; AH9 -8.5,-10.5; AH10 -7.5,-10.5; AH11 -6.5,-10.5; AH12 -5.5,-10.5; AH13 -4.5,-10.5; AH14 -3.5,-10.5; AH15 -2.5,-10.5; AH16 -1.5,-10.5; AH17 -0.5,-10.5; AH18 0.5,-10.5; AH19 1.5,-10.5; AH20 2.5,-10.5; AH21 3.5,-10.5; AH22 4.5,-10.5; AH23 5.5,-10.5; AH24 6.5,-10.5; AH25 7.5,-10.5; AH26 8.5,-10.5; AH27 9.5,-10.5; AH28 10.5,-10.5; AH29 11.5,-10.5; AH30 12.5,-10.5; AH31 13.5,-10.5; AH32 14.5,-10.5; AH33 15.5,-10.5; AH34 16.5,-10.5; AJ2 -15.5,-11.5; AJ3 -14.5,-11.5; AJ4 -13.5,-11.5; AJ5 -12.5,-11.5; AJ6 -11.5,-11.5; AJ7 -10.5,-11.5; AJ8 -9.5,-11.5; AJ9 -8.5,-11.5; AJ10 -7.5,-11.5; AJ11 -6.5,-11.5; AJ12 -5.5,-11.5; AJ13 -4.5,-11.5; AJ14 -3.5,-11.5; AJ15 -2.5,-11.5; AJ16 -1.5,-11.5; AJ17 -0.5,-11.5; AJ18 0.5,-11.5; AJ19 1.5,-11.5; AJ20 2.5,-11.5; AJ21 3.5,-11.5; AJ22 4.5,-11.5; AJ23 5.5,-11.5; AJ24 6.5,-11.5; AJ25 7.5,-11.5; AJ26 8.5,-11.5; AJ27 9.5,-11.5; AJ28 10.5,-11.5; AJ29 11.5,-11.5; AJ30 12.5,-11.5; AJ31 13.5,-11.5; AJ32 14.5,-11.5; AJ33 15.5,-11.5; AJ34 16.5,-11.5; AK2 -15.5,-12.5; AK3 -14.5,-12.5; AK4 -13.5,-12.5; AK5 -12.5,-12.5; AK6 -11.5,-12.5; AK7 -10.5,-12.5; AK8 -9.5,-12.5; AK9 -8.5,-12.5; AK10 -7.5,-12.5; AK11 -6.5,-12.5; AK12 -5.5,-12.5; AK13 -4.5,-12.5; AK14 -3.5,-12.5; AK15 -2.5,-12.5; AK16 -1.5,-12.5; AK17 -0.5,-12.5; AK18 0.5,-12.5; AK19 1.5,-12.5; AK20 2.5,-12.5; AK21 3.5,-12.5; AK22 4.5,-12.5; AK23 5.5,-12.5; AK24 6.5,-12.5; AK25 7.5,-12.5; AK26 8.5,-12.5; AK27 9.5,-12.5; AK28 10.5,-12.5; AK29 11.5,-12.5; AK30 12.5,-12.5; AK31 13.5,-12.5; AK32 14.5,-12.5; AK33 15.5,-12.5; AK34 16.5,-12.5; AL1 -16.5,-13.5; AL2 -15.5,-13.5; AL3 -14.5,-13.5; AL4 -13.5,-13.5; AL5 -12.5,-13.5; AL6 -11.5,-13.5; AL7 -10.5,-13.5; AL8 -9.5,-13.5; AL9 -8.5,-13.5; AL10 -7.5,-13.5; AL11 -6.5,-13.5; AL12 -5.5,-13.5; AL13 -4.5,-13.5; AL14 -3.5,-13.5; AL15 -2.5,-13.5; AL16 -1.5,-13.5; AL17 -0.5,-13.5; AL18 0.5,-13.5; AL19 1.5,-13.5; AL20 2.5,-13.5; AL21 3.5,-13.5; AL22 4.5,-13.5; AL23 5.5,-13.5; AL24 6.5,-13.5; AL25 7.5,-13.5; AL26 8.5,-13.5; AL27 9.5,-13.5; AL28 10.5,-13.5; AL29 11.5,-13.5; AL30 12.5,-13.5; AL31 13.5,-13.5; AL32 14.5,-13.5; AL33 15.5,-13.5; AL34 16.5,-13.5; AM1 -16.5,-14.5; AM2 -15.5,-14.5; AM3 -14.5,-14.5; AM4 -13.5,-14.5; AM5 -12.5,-14.5; AM6 -11.5,-14.5; AM7 -10.5,-14.5; AM8 -9.5,-14.5; AM9 -8.5,-14.5; AM10 -7.5,-14.5; AM11 -6.5,-14.5; AM12 -5.5,-14.5; AM13 -4.5,-14.5; AM14 -3.5,-14.5; AM15 -2.5,-14.5; AM16 -1.5,-14.5; AM17 -0.5,-14.5; AM18 0.5,-14.5; AM19 1.5,-14.5; AM20 2.5,-14.5; AM21 3.5,-14.5; AM22 4.5,-14.5; AM23 5.5,-14.5; AM24 6.5,-14.5; AM25 7.5,-14.5; AM26 8.5,-14.5; AM27 9.5,-14.5; AM28 10.5,-14.5; AM29 11.5,-14.5; AM30 12.5,-14.5; AM31 13.5,-14.5; AM32 14.5,-14.5; AM33 15.5,-14.5; AM34 16.5,-14.5; AN1 -16.5,-15.5; AN2 -15.5,-15.5; AN3 -14.5,-15.5; AN4 -13.5,-15.5; AN5 -12.5,-15.5; AN6 -11.5,-15.5; AN7 -10.5,-15.5; AN8 -9.5,-15.5; AN9 -8.5,-15.5; AN10 -7.5,-15.5; AN11 -6.5,-15.5; AN12 -5.5,-15.5; AN13 -4.5,-15.5; AN14 -3.5,-15.5; AN15 -2.5,-15.5; AN16 -1.5,-15.5; AN17 -0.5,-15.5; AN18 0.5,-15.5; AN19 1.5,-15.5; AN20 2.5,-15.5; AN21 3.5,-15.5; AN22 4.5,-15.5; AN23 5.5,-15.5; AN24 6.5,-15.5; AN25 7.5,-15.5; AN26 8.5,-15.5; AN27 9.5,-15.5; AN28 10.5,-15.5; AN29 11.5,-15.5; AN30 12.5,-15.5; AN31 13.5,-15.5; AN32 14.5,-15.5; AN33 15.5,-15.5; AN34 16.5,-15.5; AP2 -15.5,-16.5; AP3 -14.5,-16.5; AP6 -11.5,-16.5; AP7 -10.5,-16.5; AP8 -9.5,-16.5; AP9 -8.5,-16.5; AP11 -6.5,-16.5; AP12 -5.5,-16.5; AP13 -4.5,-16.5; AP14 -3.5,-16.5; AP15 -2.5,-16.5; AP16 -1.5,-16.5; AP17 -0.5,-16.5; AP18 0.5,-16.5; AP19 1.5,-16.5; AP20 2.5,-16.5; AP21 3.5,-16.5; AP22 4.5,-16.5; AP23 5.5,-16.5; AP24 6.5,-16.5; AP25 7.5,-16.5; AP26 8.5,-16.5; AP27 9.5,-16.5; AP28 10.5,-16.5; AP29 11.5,-16.5; AP30 12.5,-16.5; AP31 13.5,-16.5; AP32 14.5,-16.5; AP33 15.5,-16.5; B1 -16.5,15.5; B2 -15.5,15.5; B3 -14.5,15.5; B4 -13.5,15.5; B5 -12.5,15.5; B6 -11.5,15.5; B7 -10.5,15.5; B8 -9.5,15.5; B9 -8.5,15.5; B10 -7.5,15.5; B11 -6.5,15.5; B12 -5.5,15.5; B13 -4.5,15.5; B14 -3.5,15.5; B15 -2.5,15.5; B16 -1.5,15.5; B17 -0.5,15.5; B18 0.5,15.5; B19 1.5,15.5; B20 2.5,15.5; B21 3.5,15.5; B22 4.5,15.5; B23 5.5,15.5; B24 6.5,15.5; B25 7.5,15.5; B26 8.5,15.5; B27 9.5,15.5; B28 10.5,15.5; B29 11.5,15.5; B30 12.5,15.5; B31 13.5,15.5; B32 14.5,15.5; B33 15.5,15.5; B34 16.5,15.5; C1 -16.5,14.5; C2 -15.5,14.5; C3 -14.5,14.5; C4 -13.5,14.5; C5 -12.5,14.5; C6 -11.5,14.5; C7 -10.5,14.5; C8 -9.5,14.5; C9 -8.5,14.5; C10 -7.5,14.5; C11 -6.5,14.5; C12 -5.5,14.5; C13 -4.5,14.5; C14 -3.5,14.5; C15 -2.5,14.5; C16 -1.5,14.5; C17 -0.5,14.5; C18 0.5,14.5; C19 1.5,14.5; C20 2.5,14.5; C21 3.5,14.5; C22 4.5,14.5; C23 5.5,14.5; C24 6.5,14.5; C25 7.5,14.5; C26 8.5,14.5; C27 9.5,14.5; C28 10.5,14.5; C29 11.5,14.5; C30 12.5,14.5; C31 13.5,14.5; C32 14.5,14.5; C33 15.5,14.5; C34 16.5,14.5; D1 -16.5,13.5; D2 -15.5,13.5; D3 -14.5,13.5; D4 -13.5,13.5; D5 -12.5,13.5; D6 -11.5,13.5; D7 -10.5,13.5; D8 -9.5,13.5; D9 -8.5,13.5; D10 -7.5,13.5; D11 -6.5,13.5; D12 -5.5,13.5; D13 -4.5,13.5; D14 -3.5,13.5; D15 -2.5,13.5; D16 -1.5,13.5; D17 -0.5,13.5; D18 0.5,13.5; D19 1.5,13.5; D20 2.5,13.5; D21 3.5,13.5; D22 4.5,13.5; D23 5.5,13.5; D24 6.5,13.5; D25 7.5,13.5; D26 8.5,13.5; D27 9.5,13.5; D28 10.5,13.5; D29 11.5,13.5; D30 12.5,13.5; D31 13.5,13.5; D32 14.5,13.5; D33 15.5,13.5; D34 16.5,13.5; E2 -15.5,12.5; E3 -14.5,12.5; E4 -13.5,12.5; E5 -12.5,12.5; E6 -11.5,12.5; E7 -10.5,12.5; E8 -9.5,12.5; E9 -8.5,12.5; E10 -7.5,12.5; E11 -6.5,12.5; E12 -5.5,12.5; E13 -4.5,12.5; E14 -3.5,12.5; E15 -2.5,12.5; E16 -1.5,12.5; E17 -0.5,12.5; E18 0.5,12.5; E19 1.5,12.5; E20 2.5,12.5; E21 3.5,12.5; E22 4.5,12.5; E23 5.5,12.5; E24 6.5,12.5; E25 7.5,12.5; E26 8.5,12.5; E27 9.5,12.5; E28 10.5,12.5; E29 11.5,12.5; E30 12.5,12.5; E31 13.5,12.5; E32 14.5,12.5; E33 15.5,12.5; E34 16.5,12.5; F2 -15.5,11.5; F3 -14.5,11.5; F4 -13.5,11.5; F5 -12.5,11.5; F6 -11.5,11.5; F7 -10.5,11.5; F8 -9.5,11.5; F9 -8.5,11.5; F10 -7.5,11.5; F11 -6.5,11.5; F12 -5.5,11.5; F13 -4.5,11.5; F14 -3.5,11.5; F15 -2.5,11.5; F16 -1.5,11.5; F17 -0.5,11.5; F18 0.5,11.5; F19 1.5,11.5; F20 2.5,11.5; F21 3.5,11.5; F22 4.5,11.5; F23 5.5,11.5; F24 6.5,11.5; F25 7.5,11.5; F26 8.5,11.5; F27 9.5,11.5; F28 10.5,11.5; F29 11.5,11.5; F30 12.5,11.5; F31 13.5,11.5; F32 14.5,11.5; F33 15.5,11.5; F34 16.5,11.5; G1 -16.5,10.5; G2 -15.5,10.5; G3 -14.5,10.5; G4 -13.5,10.5; G5 -12.5,10.5; G6 -11.5,10.5; G7 -10.5,10.5; G8 -9.5,10.5; G9 -8.5,10.5; G10 -7.5,10.5; G11 -6.5,10.5; G12 -5.5,10.5; G13 -4.5,10.5; G14 -3.5,10.5; G15 -2.5,10.5; G16 -1.5,10.5; G17 -0.5,10.5; G18 0.5,10.5; G19 1.5,10.5; G20 2.5,10.5; G21 3.5,10.5; G22 4.5,10.5; G23 5.5,10.5; G24 6.5,10.5; G25 7.5,10.5; G26 8.5,10.5; G27 9.5,10.5; G28 10.5,10.5; G29 11.5,10.5; G30 12.5,10.5; G31 13.5,10.5; G32 14.5,10.5; G33 15.5,10.5; G34 16.5,10.5; H1 -16.5,9.5; H2 -15.5,9.5; H3 -14.5,9.5; H4 -13.5,9.5; H5 -12.5,9.5; H6 -11.5,9.5; H7 -10.5,9.5; H8 -9.5,9.5; H9 -8.5,9.5; H10 -7.5,9.5; H11 -6.5,9.5; H12 -5.5,9.5; H13 -4.5,9.5; H14 -3.5,9.5; H15 -2.5,9.5; H16 -1.5,9.5; H17 -0.5,9.5; H18 0.5,9.5; H19 1.5,9.5; H20 2.5,9.5; H21 3.5,9.5; H22 4.5,9.5; H23 5.5,9.5; H24 6.5,9.5; H25 7.5,9.5; H26 8.5,9.5; H27 9.5,9.5; H28 10.5,9.5; H29 11.5,9.5; H30 12.5,9.5; H31 13.5,9.5; H32 14.5,9.5; H33 15.5,9.5; H34 16.5,9.5; J1 -16.5,8.5; J2 -15.5,8.5; J3 -14.5,8.5; J4 -13.5,8.5; J5 -12.5,8.5; J6 -11.5,8.5; J7 -10.5,8.5; J8 -9.5,8.5; J9 -8.5,8.5; J10 -7.5,8.5; J11 -6.5,8.5; J12 -5.5,8.5; J13 -4.5,8.5; J14 -3.5,8.5; J15 -2.5,8.5; J16 -1.5,8.5; J17 -0.5,8.5; J18 0.5,8.5; J19 1.5,8.5; J20 2.5,8.5; J21 3.5,8.5; J22 4.5,8.5; J23 5.5,8.5; J24 6.5,8.5; J25 7.5,8.5; J26 8.5,8.5; J27 9.5,8.5; J28 10.5,8.5; J29 11.5,8.5; J30 12.5,8.5; J31 13.5,8.5; J32 14.5,8.5; J33 15.5,8.5; J34 16.5,8.5; K1 -16.5,7.5; K2 -15.5,7.5; K3 -14.5,7.5; K4 -13.5,7.5; K5 -12.5,7.5; K6 -11.5,7.5; K7 -10.5,7.5; K8 -9.5,7.5; K9 -8.5,7.5; K10 -7.5,7.5; K11 -6.5,7.5; K12 -5.5,7.5; K13 -4.5,7.5; K14 -3.5,7.5; K15 -2.5,7.5; K16 -1.5,7.5; K17 -0.5,7.5; K18 0.5,7.5; K19 1.5,7.5; K20 2.5,7.5; K21 3.5,7.5; K22 4.5,7.5; K23 5.5,7.5; K24 6.5,7.5; K25 7.5,7.5; K26 8.5,7.5; K27 9.5,7.5; K28 10.5,7.5; K29 11.5,7.5; K30 12.5,7.5; K31 13.5,7.5; K32 14.5,7.5; K33 15.5,7.5; K34 16.5,7.5; L2 -15.5,6.5; L3 -14.5,6.5; L4 -13.5,6.5; L5 -12.5,6.5; L6 -11.5,6.5; L7 -10.5,6.5; L8 -9.5,6.5; L9 -8.5,6.5; L10 -7.5,6.5; L11 -6.5,6.5; L12 -5.5,6.5; L13 -4.5,6.5; L14 -3.5,6.5; L15 -2.5,6.5; L16 -1.5,6.5; L17 -0.5,6.5; L18 0.5,6.5; L19 1.5,6.5; L20 2.5,6.5; L21 3.5,6.5; L22 4.5,6.5; L23 5.5,6.5; L24 6.5,6.5; L25 7.5,6.5; L26 8.5,6.5; L27 9.5,6.5; L28 10.5,6.5; L29 11.5,6.5; L30 12.5,6.5; L31 13.5,6.5; L32 14.5,6.5; L33 15.5,6.5; L34 16.5,6.5; M2 -15.5,5.5; M3 -14.5,5.5; M4 -13.5,5.5; M5 -12.5,5.5; M6 -11.5,5.5; M7 -10.5,5.5; M8 -9.5,5.5; M9 -8.5,5.5; M10 -7.5,5.5; M11 -6.5,5.5; M12 -5.5,5.5; M13 -4.5,5.5; M14 -3.5,5.5; M15 -2.5,5.5; M16 -1.5,5.5; M17 -0.5,5.5; M18 0.5,5.5; M19 1.5,5.5; M20 2.5,5.5; M21 3.5,5.5; M22 4.5,5.5; M23 5.5,5.5; M24 6.5,5.5; M25 7.5,5.5; M26 8.5,5.5; M27 9.5,5.5; M28 10.5,5.5; M29 11.5,5.5; M30 12.5,5.5; M31 13.5,5.5; M32 14.5,5.5; M33 15.5,5.5; M34 16.5,5.5; N1 -16.5,4.5; N2 -15.5,4.5; N3 -14.5,4.5; N4 -13.5,4.5; N5 -12.5,4.5; N6 -11.5,4.5; N7 -10.5,4.5; N8 -9.5,4.5; N9 -8.5,4.5; N10 -7.5,4.5; N11 -6.5,4.5; N12 -5.5,4.5; N13 -4.5,4.5; N14 -3.5,4.5; N15 -2.5,4.5; N16 -1.5,4.5; N17 -0.5,4.5; N18 0.5,4.5; N19 1.5,4.5; N20 2.5,4.5; N21 3.5,4.5; N22 4.5,4.5; N23 5.5,4.5; N24 6.5,4.5; N25 7.5,4.5; N26 8.5,4.5; N27 9.5,4.5; N28 10.5,4.5; N29 11.5,4.5; N30 12.5,4.5; N31 13.5,4.5; N32 14.5,4.5; N33 15.5,4.5; N34 16.5,4.5; P1 -16.5,3.5; P2 -15.5,3.5; P3 -14.5,3.5; P4 -13.5,3.5; P5 -12.5,3.5; P6 -11.5,3.5; P7 -10.5,3.5; P8 -9.5,3.5; P9 -8.5,3.5; P10 -7.5,3.5; P11 -6.5,3.5; P12 -5.5,3.5; P13 -4.5,3.5; P14 -3.5,3.5; P15 -2.5,3.5; P16 -1.5,3.5; P17 -0.5,3.5; P18 0.5,3.5; P19 1.5,3.5; P20 2.5,3.5; P21 3.5,3.5; P22 4.5,3.5; P23 5.5,3.5; P24 6.5,3.5; P25 7.5,3.5; P26 8.5,3.5; P27 9.5,3.5; P28 10.5,3.5; P29 11.5,3.5; P30 12.5,3.5; P31 13.5,3.5; P32 14.5,3.5; P33 15.5,3.5; P34 16.5,3.5; R1 -16.5,2.5; R2 -15.5,2.5; R3 -14.5,2.5; R4 -13.5,2.5; R5 -12.5,2.5; R6 -11.5,2.5; R7 -10.5,2.5; R8 -9.5,2.5; R9 -8.5,2.5; R10 -7.5,2.5; R11 -6.5,2.5; R12 -5.5,2.5; R13 -4.5,2.5; R14 -3.5,2.5; R15 -2.5,2.5; R16 -1.5,2.5; R17 -0.5,2.5; R18 0.5,2.5; R19 1.5,2.5; R20 2.5,2.5; R21 3.5,2.5; R22 4.5,2.5; R23 5.5,2.5; R24 6.5,2.5; R25 7.5,2.5; R26 8.5,2.5; R27 9.5,2.5; R28 10.5,2.5; R29 11.5,2.5; R30 12.5,2.5; R31 13.5,2.5; R32 14.5,2.5; R33 15.5,2.5; R34 16.5,2.5; T1 -16.5,1.5; T2 -15.5,1.5; T3 -14.5,1.5; T4 -13.5,1.5; T5 -12.5,1.5; T6 -11.5,1.5; T7 -10.5,1.5; T8 -9.5,1.5; T9 -8.5,1.5; T10 -7.5,1.5; T11 -6.5,1.5; T12 -5.5,1.5; T13 -4.5,1.5; T14 -3.5,1.5; T15 -2.5,1.5; T16 -1.5,1.5; T17 -0.5,1.5; T18 0.5,1.5; T19 1.5,1.5; T20 2.5,1.5; T21 3.5,1.5; T22 4.5,1.5; T23 5.5,1.5; T24 6.5,1.5; T25 7.5,1.5; T26 8.5,1.5; T27 9.5,1.5; T28 10.5,1.5; T29 11.5,1.5; T30 12.5,1.5; T31 13.5,1.5; T32 14.5,1.5; T33 15.5,1.5; T34 16.5,1.5; U2 -15.5,0.5; U3 -14.5,0.5; U4 -13.5,0.5; U5 -12.5,0.5; U6 -11.5,0.5; U7 -10.5,0.5; U8 -9.5,0.5; U9 -8.5,0.5; U10 -7.5,0.5; U11 -6.5,0.5; U12 -5.5,0.5; U13 -4.5,0.5; U14 -3.5,0.5; U15 -2.5,0.5; U16 -1.5,0.5; U17 -0.5,0.5; U18 0.5,0.5; U19 1.5,0.5; U20 2.5,0.5; U21 3.5,0.5; U22 4.5,0.5; U23 5.5,0.5; U24 6.5,0.5; U25 7.5,0.5; U26 8.5,0.5; U27 9.5,0.5; U28 10.5,0.5; U29 11.5,0.5; U30 12.5,0.5; U31 13.5,0.5; U32 14.5,0.5; U33 15.5,0.5; U34 16.5,0.5; V2 -15.5,-0.5; V3 -14.5,-0.5; V4 -13.5,-0.5; V5 -12.5,-0.5; V6 -11.5,-0.5; V7 -10.5,-0.5; V8 -9.5,-0.5; V9 -8.5,-0.5; V10 -7.5,-0.5; V11 -6.5,-0.5; V12 -5.5,-0.5; V13 -4.5,-0.5; V14 -3.5,-0.5; V15 -2.5,-0.5; V16 -1.5,-0.5; V17 -0.5,-0.5; V18 0.5,-0.5; V19 1.5,-0.5; V20 2.5,-0.5; V21 3.5,-0.5; V22 4.5,-0.5; V23 5.5,-0.5; V24 6.5,-0.5; V25 7.5,-0.5; V26 8.5,-0.5; V27 9.5,-0.5; V28 10.5,-0.5; V29 11.5,-0.5; V30 12.5,-0.5; V31 13.5,-0.5; V32 14.5,-0.5; V33 15.5,-0.5; V34 16.5,-0.5; W1 -16.5,-1.5; W2 -15.5,-1.5; W3 -14.5,-1.5; W4 -13.5,-1.5; W5 -12.5,-1.5; W6 -11.5,-1.5; W7 -10.5,-1.5; W8 -9.5,-1.5; W9 -8.5,-1.5; W10 -7.5,-1.5; W11 -6.5,-1.5; W12 -5.5,-1.5; W13 -4.5,-1.5; W14 -3.5,-1.5; W15 -2.5,-1.5; W16 -1.5,-1.5; W17 -0.5,-1.5; W18 0.5,-1.5; W19 1.5,-1.5; W20 2.5,-1.5; W21 3.5,-1.5; W22 4.5,-1.5; W23 5.5,-1.5; W24 6.5,-1.5; W25 7.5,-1.5; W26 8.5,-1.5; W27 9.5,-1.5; W28 10.5,-1.5; W29 11.5,-1.5; W30 12.5,-1.5; W31 13.5,-1.5; W32 14.5,-1.5; W33 15.5,-1.5; W34 16.5,-1.5; Y1 -16.5,-2.5; Y2 -15.5,-2.5; Y3 -14.5,-2.5; Y4 -13.5,-2.5; Y5 -12.5,-2.5; Y6 -11.5,-2.5; Y7 -10.5,-2.5; Y8 -9.5,-2.5; Y9 -8.5,-2.5; Y10 -7.5,-2.5; Y11 -6.5,-2.5; Y12 -5.5,-2.5; Y13 -4.5,-2.5; Y14 -3.5,-2.5; Y15 -2.5,-2.5; Y16 -1.5,-2.5; Y17 -0.5,-2.5; Y18 0.5,-2.5; Y19 1.5,-2.5; Y20 2.5,-2.5; Y21 3.5,-2.5; Y22 4.5,-2.5; Y23 5.5,-2.5; Y24 6.5,-2.5; Y25 7.5,-2.5; Y26 8.5,-2.5; Y27 9.5,-2.5; Y28 10.5,-2.5; Y29 11.5,-2.5; Y30 12.5,-2.5; Y31 13.5,-2.5; Y32 14.5,-2.5; Y33 15.5,-2.5; Y34 16.5,-2.5